# EAGLE library part 104224-0820 (library my-Molex)
Memory Card Connectors nanoSIM 1.11mm Card Conn 6Ckt Push/Pull
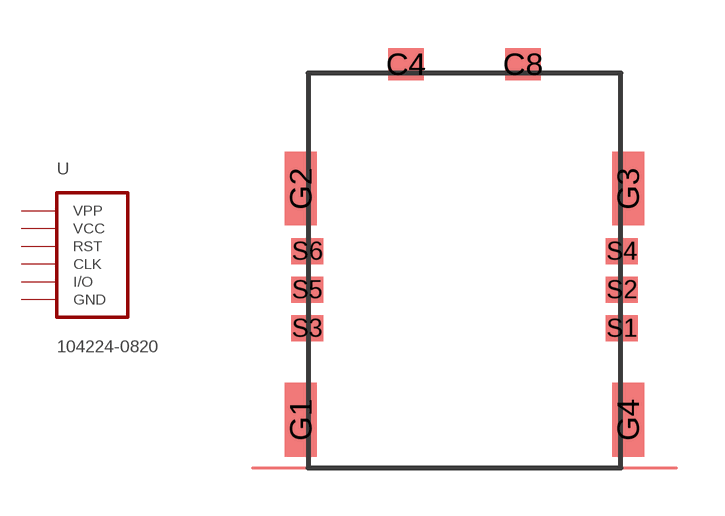
[diagram p0: symbol with the pads of 104224-0820; footprint 104224-0820]

Designator prefix -

## 104224-0820  [104224-0820]
G1  GND
G2  GND
G3  GND
G4  GND
S1  VCC
S2  RST
S3  CLK
S4  GND
S5  VPP
S6  I/O

## Footprint 104224-0820 (pad centres in mm)
smd 1.1 x 1: C4 -1.82,6.475; C8 1.82,6.475
smd 1 x 2.3: G1 -5.1,-4.6; G2 -5.1,2.6; G3 5.1,2.6; G4 5.1,-4.6
smd 1 x 0.8: S1 4.9,-1.75; S2 4.9,-0.55; S3 -4.9,-1.75; S4 4.9,0.65; S5 -4.9,-0.55; S6 -4.9,0.65